# EAGLE library part JP7Q (library jumper)
JUMPER
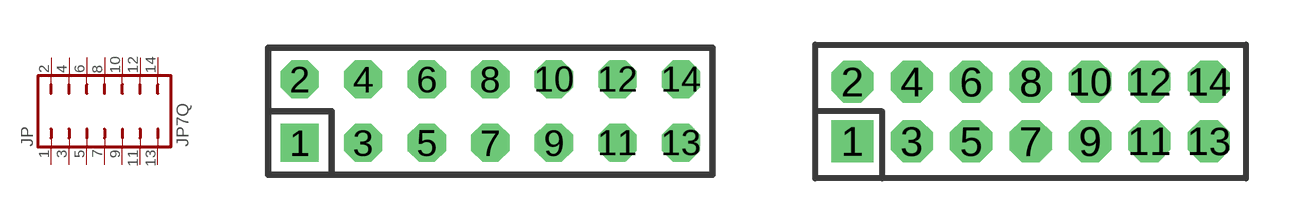
[diagram p12: symbol with the pads of JP7Q; footprints JP7Q, JP7QM]

Designator prefix JP

## JP7Q  [JP7Q]
1  1  pas
2  2  pas
3  3  pas
4  4  pas
5  5  pas
6  6  pas
7  7  pas
8  8  pas
9  9  pas
10  10  pas
11  11  pas
12  12  pas
13  13  pas
14  14  pas

## JP7QM  [JP7QM]
Pads as for JP7Q

## Footprint JP7Q (pad centres in mm)
JUMPER - 0.1" Pitch
drill 1.016 square: 1 -7.62,-1.27
drill 1.016 octagon: 2 -7.62,1.27; 3 -5.08,-1.27; 4 -5.08,1.27; 5 -2.54,-1.27; 6 -2.54,1.27; 7 0,-1.27; 8 0,1.27; 9 2.54,-1.27; 10 2.54,1.27; 11 5.08,-1.27; 12 5.08,1.27; 13 7.62,-1.27; 14 7.62,1.27

## Footprint JP7QM (pad centres in mm)
JUMPER - 2.00mm (.079") Pitch
drill 0.914 square: 1 -6,-1
drill 0.914 octagon: 2 -6,1; 3 -4,-1; 4 -4,1; 5 -2,-1; 6 -2,1; 7 0,-1; 8 0,1; 9 2,-1; 10 2,1; 11 4,-1; 12 4,1; 13 6,-1; 14 6,1